# EAGLE library part UL1401*2/3/5 (library Audio-Power-amlifier V.2.0)
Polish CEMI UL1401,UL1402,UL1403,UL1405
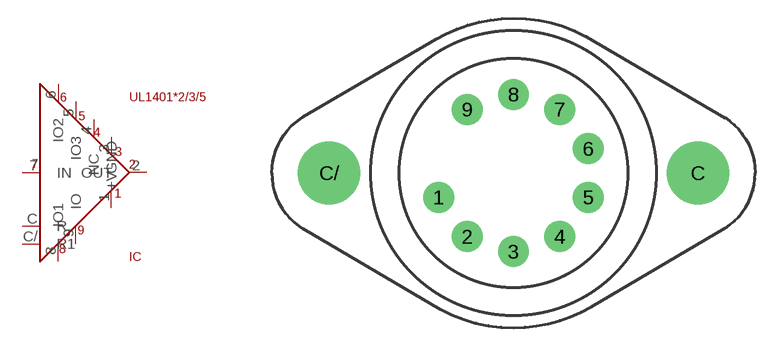
[diagram p22: symbol with the pads of CE-50/TO3; footprint CE-50/TO3]

Designator prefix IC

## UL14012/3/5  [CE-50/TO3]
1  GND  pwr
2  OUT  out
3  +V  pwr
4  NC
5  IO3
6  IO2
7  IN  in
8  IO1
9  IO
C  R  pwr
C/  R1  pwr

## Footprint CE-50/TO3 (pad centres in mm)
TO-3 National Semiconductor K08A
drill 1 pad 2.54: 1 -6.134,-1.993; 2 -3.791,-5.218; 3 0,-6.45; 4 3.791,-5.218; 5 6.134,-1.993; 6 6.134,1.993; 7 3.791,5.218; 8 0,6.45; 9 -3.791,5.218
drill 4.115: C 15.113,0; C/ -15.113,0